# Altium schematic symbol library ST2378E.SchLib: 2 symbols
Pins are listed as number, name and electrical type; pins without a type are passive.

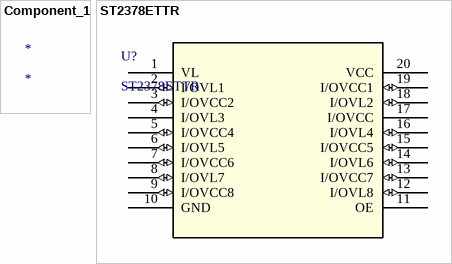
[diagram p0: symbols Component_1 to ST2378ETTR]

## Component_1
designator *

## ST2378ETTR
designator U?
No Description Available; Vendor: STMicroelectronics; SourceLibrary: STMicroelectronics_2020-07-14; Built_By: EMA_Anthony; Datasheet: https://www.st.com/content/ccc/resource/technical/document/datasheet/a1/44/6c/d7/87/0b/49/11/CD00003335.pdf/files/CD00003335.pdf/jcr:content/translations/en.CD00003335.pdf; Copyright: Copyright (C) 2018 Accelerated Designs. All rights reserved; Manufacturer_Part_Number: ST2378ETTR; RefDes: RefDes; Type: DEV
footprint TSSOP20_4P4X6P5_STM
pins: 1 VL, 2 I/OVL1 (io), 3 I/OVCC2 (io), 4 I/OVL3, 5 I/OVCC4 (io), 6 I/OVL5 (io), 7 I/OVCC6 (io), 8 I/OVL7 (io), 9 I/OVCC8 (io), 10 GND, 11 OE, 12 I/OVL8 (io), 13 I/OVCC7 (io), 14 I/OVL6 (io), 15 I/OVCC5 (io), 16 I/OVL4 (io), 17 I/OVCC, 18 I/OVL2 (io), 19 I/OVCC1 (io), 20 VCC (power)